# EAGLE library part S1216V8 (library mb_gps)
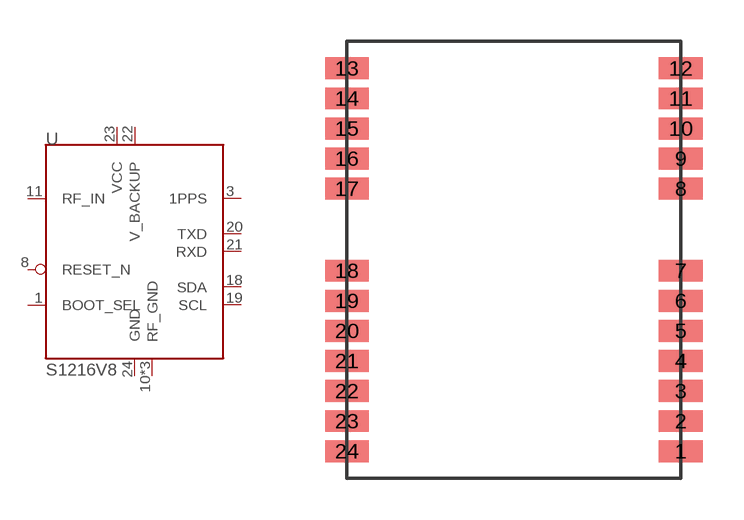
[diagram p0: symbol with the pads of S1216V8; footprint S1216V8]

Designator prefix U

## S1216V8  [S1216V8]
1  BOOT_SEL
3  1PPS
8  RESET_N
10  RF_GND
11  RF_IN
12  RF_GND
13  RF_GND
18  SDA
19  SCL
20  TXD
21  RXD
22  V_BACKUP
23  VCC
24  GND

## Footprint S1216V8 (pad centres in mm)
smd 1.6 x 0.8: 1 6.1,-7; 2 6.1,-5.9; 3 6.1,-4.8; 4 6.1,-3.7; 5 6.1,-2.6; 6 6.1,-1.5; 7 6.1,-0.4; 8 6.1,2.6; 9 6.1,3.7; 10 6.1,4.8; 11 6.1,5.9; 12 6.1,7; 13 -6.1,7; 14 -6.1,5.9; 15 -6.1,4.8; 16 -6.1,3.7; 17 -6.1,2.6; 18 -6.1,-0.4; 19 -6.1,-1.5; 20 -6.1,-2.6; 21 -6.1,-3.7; 22 -6.1,-4.8; 23 -6.1,-5.9; 24 -6.1,-7